# Altium schematic symbol library 613 0xx 243 121.SchLib: 23 symbols
Pins are listed as number, name and electrical type; pins without a type are passive.

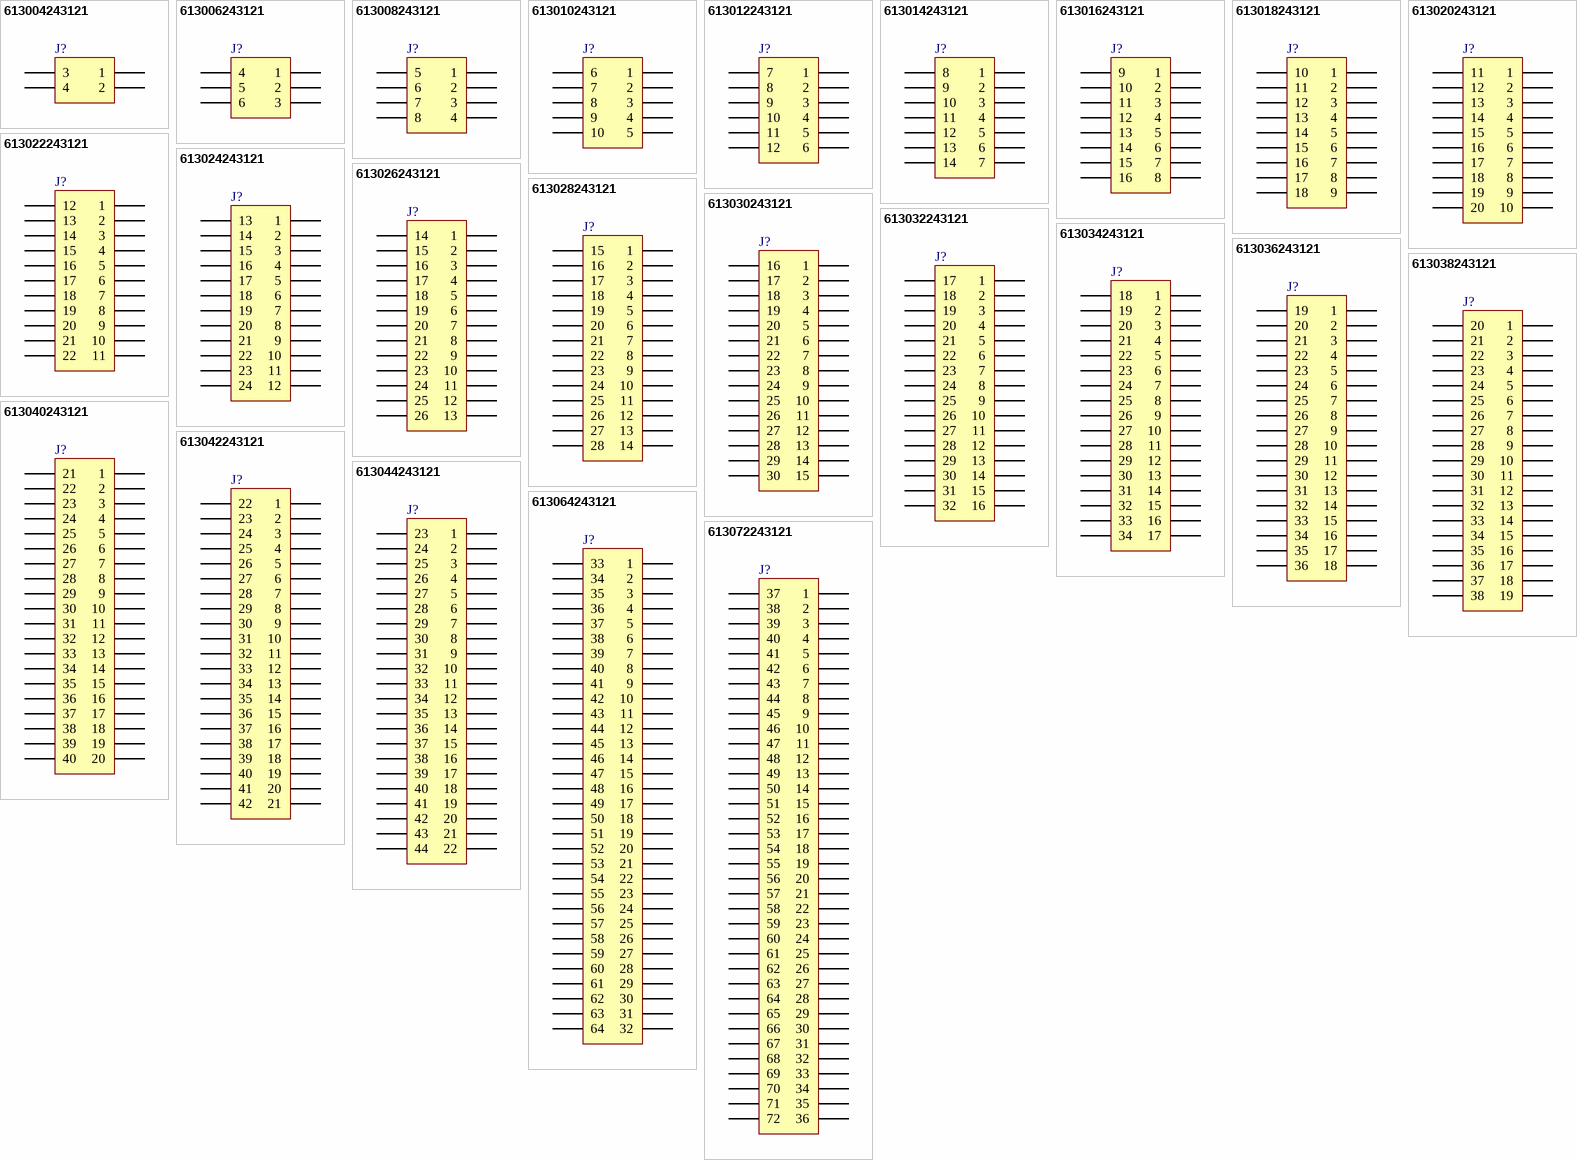
[diagram p0: symbols 613004243121 to 613072243121]

## 613004243121
designator J?, comment 04p  (value not drawn)
WR-PHD 2.54 mm Angled Dual Socket Header, 04p; PartNumber: 613004243121; PublishedDate: July 2016; Publisher: Wurth Elektronik; ComponentLink1Description: Manufacturer; ComponentLink1URL: http://www.we-online.de; ComponentLink2Description: Datasheet; ComponentLink2URL: http://katalog.we-online.de/em/datasheet/6130xx243121.pdf; PinNumber: 04p
footprint 613004243121
pins: 1, 2, 3, 4

## 613006243121
designator J?, comment 06p  (value not drawn)
WR-PHD 2.54 mm Angled Dual Socket Header, 06p; PartNumber: 613006243121; PublishedDate: July 2016; Publisher: Wurth Elektronik; ComponentLink1Description: Manufacturer; ComponentLink1URL: http://www.we-online.de; ComponentLink2Description: Datasheet; ComponentLink2URL: http://katalog.we-online.de/em/datasheet/6130xx243121.pdf; PinNumber: 06p
footprint 613006243121
pins: 1, 2, 3, 4, 5, 6

## 613008243121
designator J?, comment 08p  (value not drawn)
WR-PHD 2.54 mm Angled Dual Socket Header, 08p; PartNumber: 613008243121; PublishedDate: July 2016; Publisher: Wurth Elektronik; ComponentLink1Description: Manufacturer; ComponentLink1URL: http://www.we-online.de; ComponentLink2Description: Datasheet; ComponentLink2URL: http://katalog.we-online.de/em/datasheet/6130xx243121.pdf; PinNumber: 08p
footprint 613008243121
pins: 1, 2, 3, 4, 5, 6, 7, 8

## 613010243121
designator J?, comment 10p  (value not drawn)
WR-PHD 2.54 mm Angled Dual Socket Header, 10p; PartNumber: 613010243121; PublishedDate: July 2016; Publisher: Wurth Elektronik; ComponentLink1Description: Manufacturer; ComponentLink1URL: http://www.we-online.de; ComponentLink2Description: Datasheet; ComponentLink2URL: http://katalog.we-online.de/em/datasheet/6130xx243121.pdf; PinNumber: 10p
footprint 613010243121
pins: 1, 2, 3, 4, 5, 6, 7, 8, 9, 10

## 613012243121
designator J?, comment 12p  (value not drawn)
WR-PHD 2.54 mm Angled Dual Socket Header, 12p; PartNumber: 613012243121; PublishedDate: July 2016; Publisher: Wurth Elektronik; ComponentLink1Description: Manufacturer; ComponentLink1URL: http://www.we-online.de; ComponentLink2Description: Datasheet; ComponentLink2URL: http://katalog.we-online.de/em/datasheet/6130xx243121.pdf; PinNumber: 12p
footprint 613012243121
pins: 1, 2, 3, 4, 5, 6, 7, 8, 9, 10, 11, 12

## 613014243121
designator J?, comment 14p  (value not drawn)
WR-PHD 2.54 mm Angled Dual Socket Header, 14p; PartNumber: 613014243121; PublishedDate: July 2016; Publisher: Wurth Elektronik; ComponentLink1Description: Manufacturer; ComponentLink1URL: http://www.we-online.de; ComponentLink2Description: Datasheet; ComponentLink2URL: http://katalog.we-online.de/em/datasheet/6130xx243121.pdf; PinNumber: 14p
footprint 613014243121
pins: 1, 2, 3, 4, 5, 6, 7, 8, 9, 10, 11, 12, 13, 14

## 613016243121
designator J?, comment 16p  (value not drawn)
WR-PHD 2.54 mm Angled Dual Socket Header, 16p; PartNumber: 613016243121; PublishedDate: July 2016; Publisher: Wurth Elektronik; ComponentLink1Description: Manufacturer; ComponentLink1URL: http://www.we-online.de; ComponentLink2Description: Datasheet; ComponentLink2URL: http://katalog.we-online.de/em/datasheet/6130xx243121.pdf; PinNumber: 16p
footprint 613016243121
pins: 1, 2, 3, 4, 5, 6, 7, 8, 9, 10, 11, 12, 13, 14, 15, 16

## 613018243121
designator J?, comment 18p  (value not drawn)
WR-PHD 2.54 mm Angled Dual Socket Header, 18p; PartNumber: 613018243121; PublishedDate: July 2016; Publisher: Wurth Elektronik; ComponentLink1Description: Manufacturer; ComponentLink1URL: http://www.we-online.de; ComponentLink2Description: Datasheet; ComponentLink2URL: http://katalog.we-online.de/em/datasheet/6130xx243121.pdf; PinNumber: 18p
footprint 613018243121
pins: 1, 2, 3, 4, 5, 6, 7, 8, 9, 10, 11, 12, 13, 14, 15, 16, 17, 18

## 613020243121
designator J?, comment 20p  (value not drawn)
WR-PHD 2.54 mm Angled Dual Socket Header, 20p; PartNumber: 613020243121; PublishedDate: July 2016; Publisher: Wurth Elektronik; ComponentLink1Description: Manufacturer; ComponentLink1URL: http://www.we-online.de; ComponentLink2Description: Datasheet; ComponentLink2URL: http://katalog.we-online.de/em/datasheet/6130xx243121.pdf; PinNumber: 20p
footprint 613020243121
pins: 1, 2, 3, 4, 5, 6, 7, 8, 9, 10, 11, 12, 13, 14, 15, 16, 17, 18, 19, 20

## 613022243121
designator J?, comment 22p  (value not drawn)
WR-PHD 2.54 mm Angled Dual Socket Header, 22p; PartNumber: 613022243121; PublishedDate: July 2016; Publisher: Wurth Elektronik; ComponentLink1Description: Manufacturer; ComponentLink1URL: http://www.we-online.de; ComponentLink2Description: Datasheet; ComponentLink2URL: http://katalog.we-online.de/em/datasheet/6130xx243121.pdf; PinNumber: 22p
footprint 613022243121
pins: 1, 2, 3, 4, 5, 6, 7, 8, 9, 10, 11, 12, 13, 14, 15, 16, 17, 18, 19, 20, 21, 22

## 613024243121
designator J?, comment 24p  (value not drawn)
WR-PHD 2.54 mm Angled Dual Socket Header, 24p; PartNumber: 613024243121; PublishedDate: July 2016; Publisher: Wurth Elektronik; ComponentLink1Description: Manufacturer; ComponentLink1URL: http://www.we-online.de; ComponentLink2Description: Datasheet; ComponentLink2URL: http://katalog.we-online.de/em/datasheet/6130xx243121.pdf; PinNumber: 24p
footprint 613024243121
pins: 1, 2, 3, 4, 5, 6, 7, 8, 9, 10, 11, 12, 13, 14, 15, 16, 17, 18, 19, 20, 21, 22, 23, 24

## 613026243121
designator J?, comment 26p  (value not drawn)
WR-PHD 2.54 mm Angled Dual Socket Header, 26p; PartNumber: 613026243121; PublishedDate: July 2016; Publisher: Wurth Elektronik; ComponentLink1Description: Manufacturer; ComponentLink1URL: http://www.we-online.de; ComponentLink2Description: Datasheet; ComponentLink2URL: http://katalog.we-online.de/em/datasheet/6130xx243121.pdf; PinNumber: 26p
footprint 613026243121
pins: 1, 2, 3, 4, 5, 6, 7, 8, 9, 10, 11, 12, 13, 14, 15, 16, 17, 18, 19, 20, 21, 22, 23, 24, 25, 26

## 613028243121
designator J?, comment 28p  (value not drawn)
WR-PHD 2.54 mm Angled Dual Socket Header, 28p; PartNumber: 613028243121; PublishedDate: July 2016; Publisher: Wurth Elektronik; ComponentLink1Description: Manufacturer; ComponentLink1URL: http://www.we-online.de; ComponentLink2Description: Datasheet; ComponentLink2URL: http://katalog.we-online.de/em/datasheet/6130xx243121.pdf; PinNumber: 28p
footprint 613028243121
pins: 1, 2, 3, 4, 5, 6, 7, 8, 9, 10, 11, 12, 13, 14, 15, 16, 17, 18, 19, 20, 21, 22, 23, 24, 25, 26, 27, 28

## 613030243121
designator J?, comment 30p  (value not drawn)
WR-PHD 2.54 mm Angled Dual Socket Header, 30p; PartNumber: 613030243121; PublishedDate: July 2016; Publisher: Wurth Elektronik; ComponentLink1Description: Manufacturer; ComponentLink1URL: http://www.we-online.de; ComponentLink2Description: Datasheet; ComponentLink2URL: http://katalog.we-online.de/em/datasheet/6130xx243121.pdf; PinNumber: 30p
footprint 613030243121
pins: 1, 2, 3, 4, 5, 6, 7, 8, 9, 10, 11, 12, 13, 14, 15, 16, 17, 18, 19, 20, 21, 22, 23, 24, 25, 26, 27, 28, 29, 30

## 613032243121
designator J?, comment 32p  (value not drawn)
WR-PHD 2.54 mm Angled Dual Socket Header, 32p; PartNumber: 613032243121; PublishedDate: July 2016; Publisher: Wurth Elektronik; ComponentLink1Description: Manufacturer; ComponentLink1URL: http://www.we-online.de; ComponentLink2Description: Datasheet; ComponentLink2URL: http://katalog.we-online.de/em/datasheet/6130xx243121.pdf; PinNumber: 32p
footprint 613032243121
pins: 1, 2, 3, 4, 5, 6, 7, 8, 9, 10, 11, 12, 13, 14, 15, 16, 17, 18, 19, 20, 21, 22, 23, 24, 25, 26, 27, 28, 29, 30, 31, 32

## 613034243121
designator J?, comment 34p  (value not drawn)
WR-PHD 2.54 mm Angled Dual Socket Header, 34p; PartNumber: 613034243121; PublishedDate: July 2016; Publisher: Wurth Elektronik; ComponentLink1Description: Manufacturer; ComponentLink1URL: http://www.we-online.de; ComponentLink2Description: Datasheet; ComponentLink2URL: http://katalog.we-online.de/em/datasheet/6130xx243121.pdf; PinNumber: 34p
footprint 613034243121
pins: 1, 2, 3, 4, 5, 6, 7, 8, 9, 10, 11, 12, 13, 14, 15, 16, 17, 18, 19, 20, 21, 22, 23, 24, 25, 26, 27, 28, 29, 30, 31, 32, 33, 34

## 613036243121
designator J?, comment 36p  (value not drawn)
WR-PHD 2.54 mm Angled Dual Socket Header, 36p; PartNumber: 613036243121; PublishedDate: July 2016; Publisher: Wurth Elektronik; ComponentLink1Description: Manufacturer; ComponentLink1URL: http://www.we-online.de; ComponentLink2Description: Datasheet; ComponentLink2URL: http://katalog.we-online.de/em/datasheet/6130xx243121.pdf; PinNumber: 36p
footprint 613036243121
pins: 1, 2, 3, 4, 5, 6, 7, 8, 9, 10, 11, 12, 13, 14, 15, 16, 17, 18, 19, 20, 21, 22, 23, 24, 25, 26, 27, 28, 29, 30, 31, 32, 33, 34, 35, 36

## 613038243121
designator J?, comment 38p  (value not drawn)
WR-PHD 2.54 mm Angled Dual Socket Header, 38p; PartNumber: 613038243121; PublishedDate: July 2016; Publisher: Wurth Elektronik; ComponentLink1Description: Manufacturer; ComponentLink1URL: http://www.we-online.de; ComponentLink2Description: Datasheet; ComponentLink2URL: http://katalog.we-online.de/em/datasheet/6130xx243121.pdf; PinNumber: 38p
footprint 613038243121
pins: 1, 2, 3, 4, 5, 6, 7, 8, 9, 10, 11, 12, 13, 14, 15, 16, 17, 18, 19, 20, 21, 22, 23, 24, 25, 26, 27, 28, 29, 30, 31, 32, 33, 34, 35, 36, 37, 38

## 613040243121
designator J?, comment 40p  (value not drawn)
WR-PHD 2.54 mm Angled Dual Socket Header, 40p; PartNumber: 613040243121; PublishedDate: July 2016; Publisher: Wurth Elektronik; ComponentLink1Description: Manufacturer; ComponentLink1URL: http://www.we-online.de; ComponentLink2Description: Datasheet; ComponentLink2URL: http://katalog.we-online.de/em/datasheet/6130xx243121.pdf; PinNumber: 40p
footprint 613040243121
pins: 1, 2, 3, 4, 5, 6, 7, 8, 9, 10, 11, 12, 13, 14, 15, 16, 17, 18, 19, 20, 21, 22, 23, 24, 25, 26, 27, 28, 29, 30, 31, 32, 33, 34, 35, 36, 37, 38, 39, 40

## 613042243121
designator J?, comment 42p  (value not drawn)
WR-PHD 2.54 mm Angled Dual Socket Header, 42p; PartNumber: 613042243121; PublishedDate: July 2016; Publisher: Wurth Elektronik; ComponentLink1Description: Manufacturer; ComponentLink1URL: http://www.we-online.de; ComponentLink2Description: Datasheet; ComponentLink2URL: http://katalog.we-online.de/em/datasheet/6130xx243121.pdf; PinNumber: 42p
footprint 613042243121
pins: 1, 2, 3, 4, 5, 6, 7, 8, 9, 10, 11, 12, 13, 14, 15, 16, 17, 18, 19, 20, 21, 22, 23, 24, 25, 26, 27, 28, 29, 30, 31, 32, 33, 34, 35, 36, 37, 38, 39, 40, 41, 42

## 613044243121
designator J?, comment 44p  (value not drawn)
WR-PHD 2.54 mm Angled Dual Socket Header, 44p; PartNumber: 613044243121; PublishedDate: July 2016; Publisher: Wurth Elektronik; ComponentLink1Description: Manufacturer; ComponentLink1URL: http://www.we-online.de; ComponentLink2Description: Datasheet; ComponentLink2URL: http://katalog.we-online.de/em/datasheet/6130xx243121.pdf; PinNumber: 44p
footprint 613044243121
pins: 1, 2, 3, 4, 5, 6, 7, 8, 9, 10, 11, 12, 13, 14, 15, 16, 17, 18, 19, 20, 21, 22, 23, 24, 25, 26, 27, 28, 29, 30, 31, 32, 33, 34, 35, 36, 37, 38, 39, 40, 41, 42, 43, 44

## 613064243121
designator J?, comment 64p  (value not drawn)
WR-PHD 2.54 mm Angled Dual Socket Header, 64p; PartNumber: 613064243121; PublishedDate: July 2016; Publisher: Wurth Elektronik; ComponentLink1Description: Manufacturer; ComponentLink1URL: http://www.we-online.de; ComponentLink2Description: Datasheet; ComponentLink2URL: http://katalog.we-online.de/em/datasheet/6130xx243121.pdf; PinNumber: 64p
footprint 613064243121
pins: 1, 2, 3, 4, 5, 6, 7, 8, 9, 10, 11, 12, 13, 14, 15, 16, 17, 18, 19, 20, 21, 22, 23, 24, 25, 26, 27, 28, 29, 30, 31, 32, 33, 34, 35, 36, 37, 38, 39, 40, 41, 42, 43, 44, 45, 46, 47, 48, 49, 50, 51, 52, 53, 54, 55, 56, 57, 58, 59, 60, 61, 62, 63, 64

## 613072243121
designator J?, comment 72p  (value not drawn)
WR-PHD 2.54 mm Angled Dual Socket Header, 72p; PartNumber: 613072243121; PublishedDate: July 2016; Publisher: Wurth Elektronik; ComponentLink1Description: Manufacturer; ComponentLink1URL: http://www.we-online.de; ComponentLink2Description: Datasheet; ComponentLink2URL: http://katalog.we-online.de/em/datasheet/6130xx243121.pdf; PinNumber: 72p
footprint 613072243121
pins: 1, 2, 3, 4, 5, 6, 7, 8, 9, 10, 11, 12, 13, 14, 15, 16, 17, 18, 19, 20, 21, 22, 23, 24, 25, 26, 27, 28, 29, 30, 31, 32, 33, 34, 35, 36, 37, 38, 39, 40, 41, 42, 43, 44, 45, 46, 47, 48, 49, 50, 51, 52, 53, 54, 55, 56, 57, 58, 59, 60, 61, 62, 63, 64, 65, 66, 67, 68, 69, 70, 71, 72